# Altium footprint library IPC-SM-782 Section 12.2 PLCC-Rectangular.PcbLib: 5 footprints
Each footprint in its own frame and in the unit in brackets; x right, y up, seen from the top. Pads: shape width x height; smd on the part's side, far side on the other; paste and mask are expansions set on the pad; w line width, h text height; cw(c..) or ccw(c..) is an arc to the next point about the centre after c.
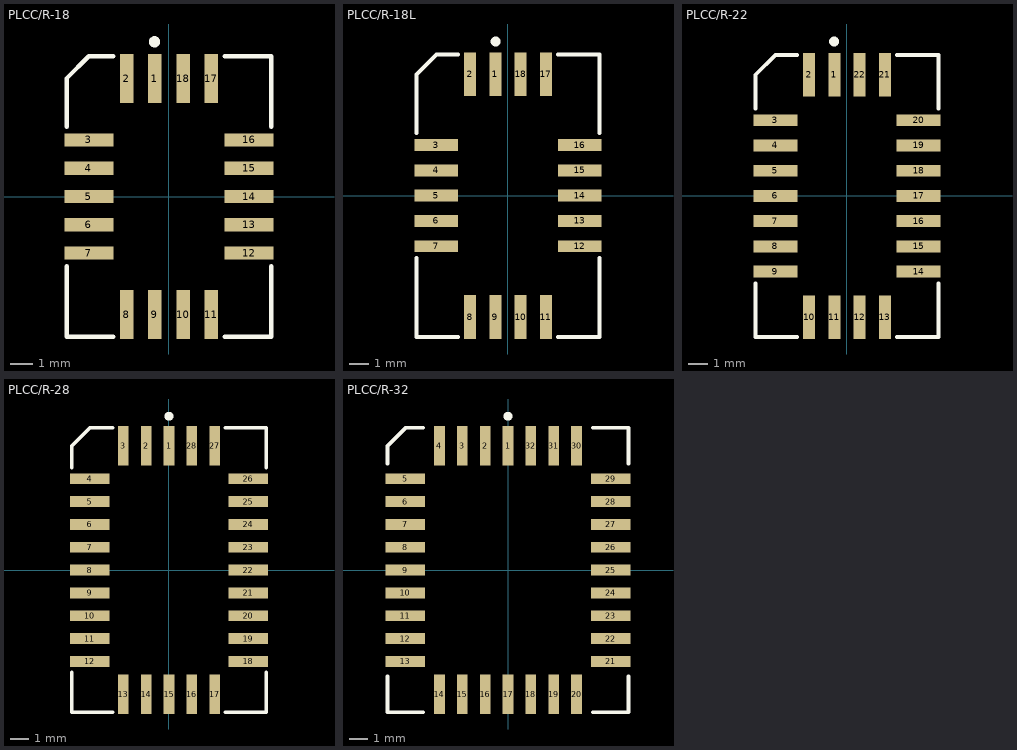
[diagram p0: the footprints below, top view; thin cyan lines are the x and y axes]

## PLCC/R-18 [mm] "PLCC; 18 Leads; Body 7.2 x 10.8 mm; Pitch 1.27 mm"
height 3.57
pads (18):
  rect 0.6x2.2 smd: 1(-0.635,5.3) 2(-1.905,5.3) 8(-1.905,-5.3) 9(-0.635,-5.3) 10(0.635,-5.3) 11(1.905,-5.3) 17(1.905,5.3) 18(0.635,5.3)
  rect 2.2x0.6 smd: 3(-3.6,2.54) 4(-3.6,1.27) 5(-3.6,0) 6(-3.6,-1.27) 7(-3.6,-2.54) 12(3.6,-2.54) 13(3.6,-1.27) 14(3.6,0) 15(3.6,1.27) 16(3.6,2.54)
Top Overlay:
  circle w0.25: c-0.65,6.95 r0.125
  lines w0.2: -4.6,-3.14 -4.6,-6.3 -2.505,-6.3 ; -4.6,3.14 -4.6,5.3 -3.6,6.3 -2.505,6.3 ; 2.505,-6.3 4.6,-6.3 4.6,-3.14 ; 2.505,6.3 4.6,6.3 4.6,3.14

## PLCC/R-18L [mm] "PLCC; 18 Leads; Body 7.4 x 12.4 mm; Pitch 1.27 mm"
height 3.57
pads (18):
  rect 0.6x2.2 smd: 1(-0.635,6.1) 2(-1.905,6.1) 8(-1.905,-6.1) 9(-0.635,-6.1) 10(0.635,-6.1) 11(1.905,-6.1) 17(1.905,6.1) 18(0.635,6.1)
  rect 2.2x0.6 smd: 3(-3.6,2.54) 4(-3.6,1.27) 5(-3.6,0) 6(-3.6,-1.27) 7(-3.6,-2.54) 12(3.6,-2.54) 13(3.6,-1.27) 14(3.6,0) 15(3.6,1.27) 16(3.6,2.54)
Top Overlay:
  circle w0.25: c-0.625,7.75 r0.125
  lines w0.2: -4.6,-3.14 -4.6,-7.1 -2.505,-7.1 ; -4.6,3.14 -4.6,6.1 -3.6,7.1 -2.505,7.1 ; 2.505,-7.1 4.6,-7.1 4.6,-3.14 ; 2.505,7.1 4.6,7.1 4.6,3.14

## PLCC/R-22 [mm] "PLCC; 22 Leads; Body 7.4 x 12.4 mm; Pitch 1.27 mm"
height 3.57
pads (22):
  rect 0.6x2.2 smd: 1(-0.635,6.1) 2(-1.905,6.1) 10(-1.905,-6.1) 11(-0.635,-6.1) 12(0.635,-6.1) 13(1.905,-6.1) 21(1.905,6.1) 22(0.635,6.1)
  rect 2.2x0.6 smd: 3(-3.6,3.81) 4(-3.6,2.54) 5(-3.6,1.27) 6(-3.6,0) 7(-3.6,-1.27) 8(-3.6,-2.54) 9(-3.6,-3.81) 14(3.6,-3.81) 15(3.6,-2.54) 16(3.6,-1.27) 17(3.6,0) 18(3.6,1.27) 19(3.6,2.54) 20(3.6,3.81)
Top Overlay:
  circle w0.25: c-0.65,7.775 r0.125
  lines w0.2: -4.6,-4.41 -4.6,-7.1 -2.505,-7.1 ; -4.6,4.41 -4.6,6.1 -3.6,7.1 -2.505,7.1 ; 2.505,-7.1 4.6,-7.1 4.6,-4.41 ; 2.505,7.1 4.6,7.1 4.6,4.41

## PLCC/R-28 [mm] "PLCC; 28 Leads; Body 9 x 14 mm; Pitch 1.27 mm"
height 3.57
pads (28):
  rect 0.6x2.2 smd: 1(0,6.9) 2(-1.27,6.9) 3(-2.54,6.9) 13(-2.54,-6.9) 14(-1.27,-6.9) 15(0,-6.9) 16(1.27,-6.9) 17(2.54,-6.9) 27(2.54,6.9) 28(1.27,6.9)
  rect 2.2x0.6 smd: 4(-4.4,5.08) 5(-4.4,3.81) 6(-4.4,2.54) 7(-4.4,1.27) 8(-4.4,0) 9(-4.4,-1.27) 10(-4.4,-2.54) 11(-4.4,-3.81) 12(-4.4,-5.08) 18(4.4,-5.08) 19(4.4,-3.81) 20(4.4,-2.54) 21(4.4,-1.27) 22(4.4,0) 23(4.4,1.27) 24(4.4,2.54) 25(4.4,3.81) 26(4.4,5.08)
Top Overlay:
  circle w0.25: c0,8.55 r0.125
  lines w0.2: -5.4,-5.68 -5.4,-7.9 -3.14,-7.9 ; -5.4,5.68 -5.4,6.9 -4.4,7.9 -3.14,7.9 ; 3.14,-7.9 5.4,-7.9 5.4,-5.68 ; 3.14,7.9 5.4,7.9 5.4,5.68

## PLCC/R-32 [mm] "PLCC; 32 Leads; Body 11.4 x 14 mm; Pitch 1.27 mm"
height 3.57
pads (32):
  rect 0.6x2.2 smd: 1(0,6.9) 2(-1.27,6.9) 3(-2.54,6.9) 4(-3.81,6.9) 14(-3.81,-6.9) 15(-2.54,-6.9) 16(-1.27,-6.9) 17(0,-6.9) 18(1.27,-6.9) 19(2.54,-6.9) 20(3.81,-6.9) 30(3.81,6.9) 31(2.54,6.9) 32(1.27,6.9)
  rect 2.2x0.6 smd: 5(-5.7,5.08) 6(-5.7,3.81) 7(-5.7,2.54) 8(-5.7,1.27) 9(-5.7,0) 10(-5.7,-1.27) 11(-5.7,-2.54) 12(-5.7,-3.81) 13(-5.7,-5.08) 21(5.7,-5.08) 22(5.7,-3.81) 23(5.7,-2.54) 24(5.7,-1.27) 25(5.7,0) 26(5.7,1.27) 27(5.7,2.54) 28(5.7,3.81) 29(5.7,5.08)
Top Overlay:
  circle w0.25: c0,8.55 r0.125
  lines w0.2: -6.7,-5.9 -6.7,-7.9 -4.7,-7.9 ; -6.7,5.9 -6.7,6.9 -5.7,7.9 -4.7,7.9 ; 4.7,-7.9 6.7,-7.9 6.7,-5.9 ; 4.7,7.9 6.7,7.9 6.7,5.9